# EAGLE library part LSM9DS1_IMU (library PiB)
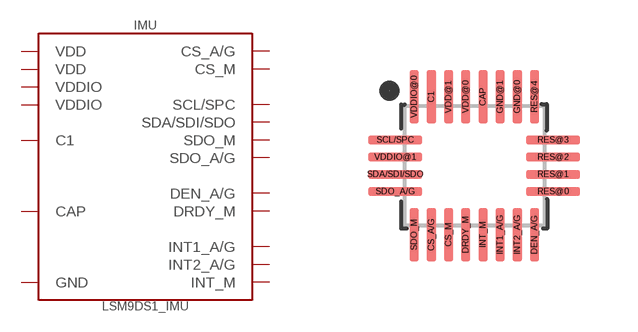
[diagram p13: symbol with the pads of LSM9DS1-24LGA; footprint LSM9DS1-24LGA]

Designator prefix IMU

## LSM9DS1_IMU (CREATOR: MrSwirlyEyes; DATASHEET: http://www.st.com/content/ccc/resource/technical/document/datasheet/1e/3f/2a/d6/25/eb/48/46/DM00103319.pdf/files/DM00103319.pdf/jcr:content/translations/en.DM00103319.pdf; DIST: Digikey; DISTLINK: https://www.digikey.com/products/en?keywords=497-14946-1-ND; DISTPN: 497-14946-1-ND; MFR: STMicroelectronics; MPN: LSM9DS1TR; VALUE: LSM9DS1)  [LSM9DS1-24LGA]
C1  C1  pas
CAP  CAP  pas
CS_A/G  CS_A/G
CS_M  CS_M
DEN_A/G  DEN_A/G
DRDY_M  DRDY_M
GND@0  GND  pwr
GND@1  GND  pwr
INT1_A/G  INT1_A/G
INT2_A/G  INT2_A/G
INT_M  INT_M
RES@0  GND  pwr
RES@1  GND  pwr
RES@2  GND  pwr
RES@3  GND  pwr
RES@4  GND  pwr
SCL/SPC  SCL/SPC
SDA/SDI/SDO  SDA/SDI/SDO
SDO_A/G  SDO_A/G
SDO_M  SDO_M
VDD@0  VDD  pwr
VDD@1  VDD  pwr
VDDIO@0  VDDIO  pwr
VDDIO@1  VDDIO  pwr

## Footprint LSM9DS1-24LGA (pad centres in mm)
smd 0.23 x 1.35: C1 -1.075,1.725; CAP 0.215,1.725; CS_A/G -1.075,-1.725; CS_M -0.645,-1.725; DEN_A/G 1.505,-1.725; DRDY_M -0.215,-1.725; GND@0 1.075,1.725; GND@1 0.645,1.725; INT1_A/G 0.645,-1.725; INT2_A/G 1.075,-1.725; INT_M 0.215,-1.725; RES@4 1.505,1.725; SDO_M -1.505,-1.725; VDD@0 -0.215,1.725; VDD@1 -0.645,1.725; VDDIO@0 -1.505,1.725
smd 1.35 x 0.23: RES@0 1.975,-0.645; RES@1 1.975,-0.215; RES@2 1.975,0.215; RES@3 1.975,0.645; SCL/SPC -1.975,0.645; SDA/SDI/SDO -1.975,-0.215; SDO_A/G -1.975,-0.645; VDDIO@1 -1.975,0.215